# Altium footprint library PCB2.PcbLib: 98 footprints (part 7 of 7)
Each footprint in its own frame and in the unit in brackets; x right, y up, seen from the top. Pads: shape width x height; smd on the part's side, far side on the other; paste and mask are expansions set on the pad; w line width, h text height; cw(c..) or ccw(c..) is an arc to the next point about the centre after c.
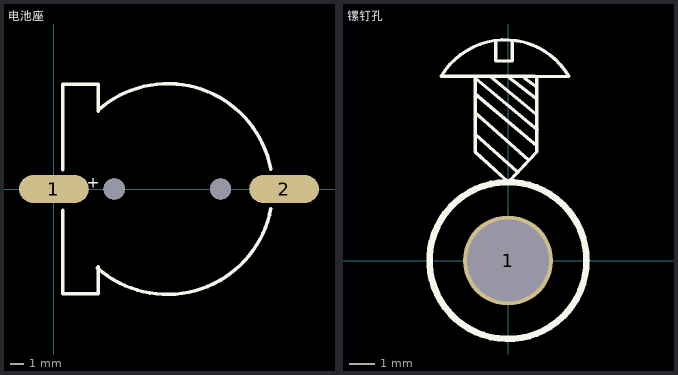
[diagram p6: the footprints below, top view; thin cyan lines are the x and y axes]

## 电池座 [mm]
height 5
pads (2):
  oval 5x2 smd: 1(0,0) 2(16.5,0)
via 4.318,0 diameter 1.524 hole 1.524
via 11.938,0 diameter 1.524 hole 1.524
Top Overlay:
  lines w0.254: 0.635,-1.524 0.635,-7.493 3.175,-7.493 3.175,-5.588 ; 0.635,1.397 0.635,7.493 3.175,7.493 3.175,5.588 ; 3.115,-5.655 ccw(c8.128,0) 15.553,-1.408 ; 3.175,5.659 cw(c8.159,0.035) 15.543,1.43
  text "+" at 3.302,0.762 h0.81
3D body "User Library-cr1220.STEP": height 3.94, standoff -1, extent -1,-7.5 17.5,7.497

## 镙钉孔 [mm]
pads (1):
  round 3.5 hole 3.2: 1(0,0)
Top Overlay:
  circle w0.254: c0,0 r3.05
  lines w0.127: -1.278,4.91 0.356,3.454 ; -1.278,5.744 0.782,3.916 ; -1.278,6.472 1.119,4.466 ; -1.242,7.058 1.137,5.087 ; -0.674,7.147 1.066,5.709 ; -0.479,8.531 -0.479,7.75 0.16,7.75 0.16,8.531 ; 0.036,7.111 1.066,6.312 ; 0.64,7.093 1.066,6.774 ; 1.048,7.164 -1.278,7.164 ; -1.278,7.164 -1.278,4.218 0.018,3.046 1.119,4.218 1.119,7.147 2.373,7.15 ccw(c-0.113,5.698) -2.591,7.164 -1.278,7.164
Bottom Overlay:
  circle w0.2: c0,0 r3.05
  lines w0.2: -2.587,7.212 cw(c-0.169,5.818) 2.276,7.163
  lines w0.254: -2.534,7.182 -2.547,7.194 2.333,7.194 ; -1.208,7.057 -1.208,4.279 0.006,3.065 1.17,4.229 1.17,7.032 ; -0.482,8.533 -0.47,8.546 -0.47,7.795 0.181,7.795 0.181,8.446